# EAGLE library part 40PIN (library Connectors)
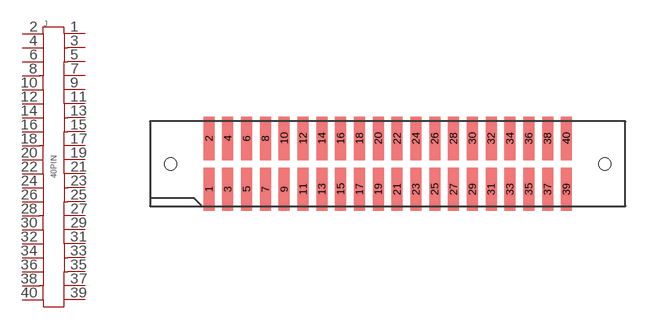
[diagram p5: symbol with the pads of TFM-120-02-S-D-WT; footprint TFM-120-02-S-D-WT]

Designator prefix J

## 40PIN-TFM-120-02-S-D-WT  [TFM-120-02-S-D-WT]
1  1  pas
2  2  pas
3  3  pas
4  4  pas
5  5  pas
6  6  pas
7  7  pas
8  8  pas
9  9  pas
10  10  pas
11  11  pas
12  12  pas
13  13  pas
14  14  pas
15  15  pas
16  16  pas
17  17  pas
18  18  pas
19  19  pas
20  20  pas
21  21  pas
22  22  pas
23  23  pas
24  24  pas
25  25  pas
26  26  pas
27  27  pas
28  28  pas
29  29  pas
30  30  pas
31  31  pas
32  32  pas
33  33  pas
34  34  pas
35  35  pas
36  36  pas
37  37  pas
38  38  pas
39  39  pas
40  40  pas

## Footprint TFM-120-02-S-D-WT (pad centres in mm)
smd 0.74 x 2.92: 1 -12.065,-1.715; 2 -12.065,1.715; 3 -10.795,-1.715; 4 -10.795,1.715; 5 -9.525,-1.715; 6 -9.525,1.715; 7 -8.255,-1.715; 8 -8.255,1.715; 9 -6.985,-1.715; 10 -6.985,1.715; 11 -5.715,-1.715; 12 -5.715,1.715; 13 -4.445,-1.715; 14 -4.445,1.715; 15 -3.175,-1.715; 16 -3.175,1.715; 17 -1.905,-1.715; 18 -1.905,1.715; 19 -0.635,-1.715; 20 -0.635,1.715; 21 0.635,-1.715; 22 0.635,1.715; 23 1.905,-1.715; 24 1.905,1.715; 25 3.175,-1.715; 26 3.175,1.715; 27 4.445,-1.715; 28 4.445,1.715; 29 5.715,-1.715; 30 5.715,1.715; 31 6.985,-1.715; 32 6.985,1.715; 33 8.255,-1.715; 34 8.255,1.715; 35 9.525,-1.715; 36 9.525,1.715; 37 10.795,-1.715; 38 10.795,1.715; 39 12.065,-1.715; 40 12.065,1.715
hole 0.84 at -14.655,0
hole 0.84 at 14.655,0